# Altium footprint library PCB - LEADLESS - QFN - TRINAMIC QFN-47 WA 8x8.PCBLIB: 1 footprints
Each footprint in its own frame and in the unit in brackets; x right, y up, seen from the top. Pads: shape width x height; smd on the part's side, far side on the other; paste and mask are expansions set on the pad; w line width, h text height; cw(c..) or ccw(c..) is an arc to the next point about the centre after c.
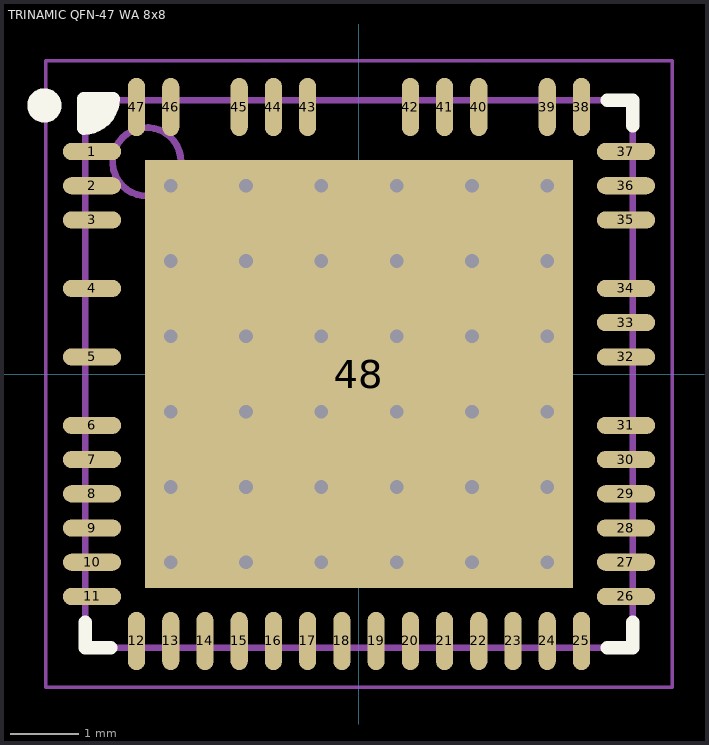
[diagram p0: the footprint, top view; thin cyan lines are the x and y axes]

## TRINAMIC QFN-47 WA 8x8 [mm] "VQFN, 64-Leads, Body 8.00x8.00mm, Pitch 0.50mm, Thermal Pad 6.30x6.30mm, IPC Medium Density"
height 0.9
pads (48):
  oval 0.85x0.25 smd: 1(-3.9,3.25) 2(-3.9,2.75) 3(-3.9,2.25) 4(-3.9,1.25) 5(-3.9,0.25) 6(-3.9,-0.75) 7(-3.9,-1.25) 8(-3.9,-1.75) 9(-3.9,-2.25) 10(-3.9,-2.75) 11(-3.9,-3.25) 26(3.9,-3.25) 27(3.9,-2.75) 28(3.9,-2.25) 29(3.9,-1.75) 30(3.9,-1.25) 31(3.9,-0.75) 32(3.9,0.25) 33(3.9,0.75) 34(3.9,1.25) 35(3.9,2.25) 36(3.9,2.75) 37(3.9,3.25)
  oval 0.25x0.85 smd: 12(-3.25,-3.9) 13(-2.75,-3.9) 14(-2.25,-3.9) 15(-1.75,-3.9) 16(-1.25,-3.9) 17(-0.75,-3.9) 18(-0.25,-3.9) 19(0.25,-3.9) 20(0.75,-3.9) 21(1.25,-3.9) 22(1.75,-3.9) 23(2.25,-3.9) 24(2.75,-3.9) 25(3.25,-3.9) 38(3.25,3.9) 39(2.75,3.9) 40(1.75,3.9) 41(1.25,3.9) 42(0.75,3.9) 43(-0.75,3.9) 44(-1.25,3.9) 45(-1.75,3.9) 46(-2.75,3.9) 47(-3.25,3.9)
  rect 6.25x6.25 smd: 48(0,0)
via -2.75,2.75 diameter 0.5 hole 0.2
via -1.65,2.75 diameter 0.5 hole 0.2
via -0.55,2.75 diameter 0.5 hole 0.2
via 0.55,2.75 diameter 0.5 hole 0.2
via 1.65,2.75 diameter 0.5 hole 0.2
via 2.75,2.75 diameter 0.5 hole 0.2
via -2.75,1.65 diameter 0.5 hole 0.2
via -1.65,1.65 diameter 0.5 hole 0.2
via -0.55,1.65 diameter 0.5 hole 0.2
via 0.55,1.65 diameter 0.5 hole 0.2
via 1.65,1.65 diameter 0.5 hole 0.2
via 2.75,1.65 diameter 0.5 hole 0.2
via -2.75,0.55 diameter 0.5 hole 0.2
via -1.65,0.55 diameter 0.5 hole 0.2
via -0.55,0.55 diameter 0.5 hole 0.2
via 0.55,0.55 diameter 0.5 hole 0.2
via 1.65,0.55 diameter 0.5 hole 0.2
via 2.75,0.55 diameter 0.5 hole 0.2
via -2.75,-0.55 diameter 0.5 hole 0.2
via -1.65,-0.55 diameter 0.5 hole 0.2
via -0.55,-0.55 diameter 0.5 hole 0.2
via 0.55,-0.55 diameter 0.5 hole 0.2
via 1.65,-0.55 diameter 0.5 hole 0.2
via 2.75,-0.55 diameter 0.5 hole 0.2
via -2.75,-1.65 diameter 0.5 hole 0.2
via -1.65,-1.65 diameter 0.5 hole 0.2
via -0.55,-1.65 diameter 0.5 hole 0.2
via 0.55,-1.65 diameter 0.5 hole 0.2
via 1.65,-1.65 diameter 0.5 hole 0.2
via 2.75,-1.65 diameter 0.5 hole 0.2
via -2.75,-2.75 diameter 0.5 hole 0.2
via -1.65,-2.75 diameter 0.5 hole 0.2
via -0.55,-2.75 diameter 0.5 hole 0.2
via 0.55,-2.75 diameter 0.5 hole 0.2
via 1.65,-2.75 diameter 0.5 hole 0.2
via 2.75,-2.75 diameter 0.5 hole 0.2
Top Overlay:
  circle w0.25: c-4.596,3.923 r0.125
  region: -4.023,4.023 -3.593,4.023 -3.593,3.816 -3.816,3.593 -4.023,3.593
  lines w0.2: -4,-3.625 -4,-4 -3.625,-4 ; 3.625,-4 4,-4 4,-3.625 ; 3.625,4 4,4 4,3.625 ; -4.023,3.593 ccw(c-4.023,4.023) -3.593,4.023 -4.023,4.023 -4.023,3.593
Mechanical 13:
  circle w0.1: c-3.1,3.1 r0.5
  lines w0.1: -4,-4 -4,4 4,4 4,-4 -4,-4
Mechanical 15:
  lines w0.05: -4.575,-4.575 -4.575,4.575 4.575,4.575 4.575,-4.575 -4.575,-4.575
  lines w0.1: -0.5,0 0.5,0 ; 0,-0.5 0,0.5
3D body "Trinamic - QFN-47 WA 8x8.step": height 0.95, standoff 0, extent -4,-4 4,4